# Altium schematic symbol library CANDAQ.SchLib: 22 symbols
Pins are listed as number, name and electrical type; pins without a type are passive.

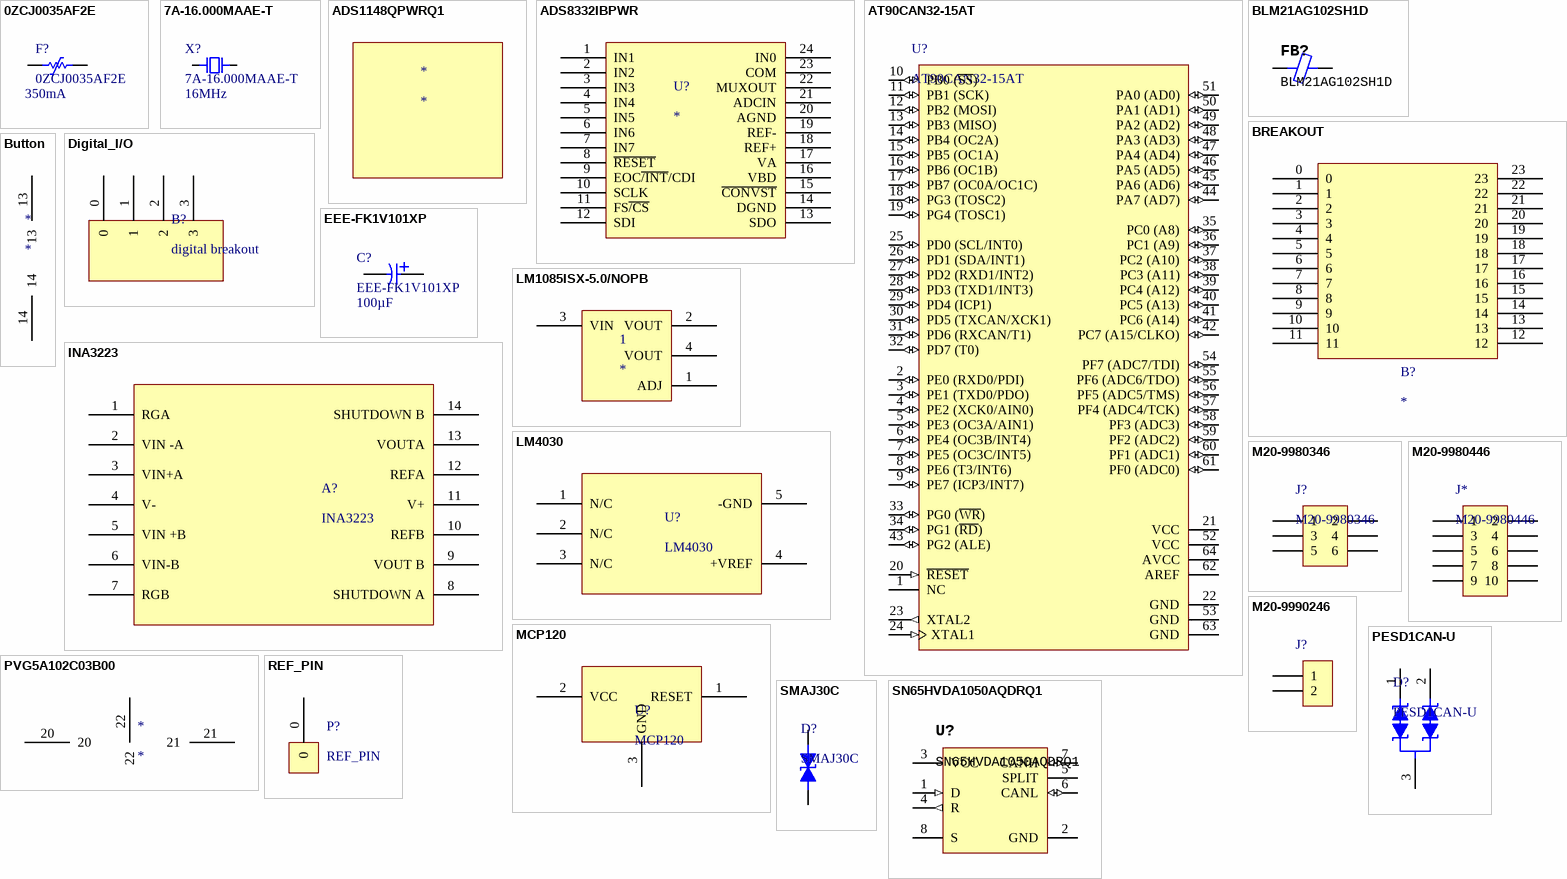
[diagram p0: symbols 0ZCJ0035AF2E to SN65HVDA1050AQDRQ1]

## 0ZCJ0035AF2E
designator F?  value 350mA
footprint 0ZCJ-1206-0.9
pins: 1, 2

## 7A-16.000MAAE-T
designator X?  value 16MHz
SMD Crystal Oscillator 12 pF; Load Capacitance: 12pF; Supplier 1: Digi-Key; Supplier Part Number 1: 887-1747-1-ND
footprint QFN200P500X320X135-2N (QFN, 2-Leads, Body 5.00x3.20mm, Pitch 2.00mm, IPC Medium Density)
pins: 1, 2

## ADS1148QPWRQ1
designator *

## ADS8332IBPWR
designator U?
footprint tssop
pins: 1 IN1, 2 IN2, 3 IN3, 4 IN4, 5 IN5, 6 IN6, 7 IN7, 8 ~{RESET}, 9 EOC~{/INT}/CDI, 10 SCLK, 11 FS~{/CS}, 12 SDI, 13 SDO, 14 DGND, 15 ~{CONVST}, 16 VBD, 17 VA, 18 REF+, 19 REF-, 20 AGND, 21 ADCIN, 22 MUXOUT, 23 COM, 24 IN0

## AT90CAN32-15AT
designator U?
Supplier 1: Digi-Key; Supplier Part Number 1: AT90CAN32-15ATCT-ND
footprint TQFP80P1600X1600X120-64N (TQFP, 64-Leads, Body 14.00x14.00mm, Pitch 0.80mm, IPC Medium Density)
pins: 1 NC, 2 PE0 (RXD0/PDI) (io), 3 PE1 (TXD0/PDO) (io), 4 PE2 (XCK0/AIN0) (io), 5 PE3 (OC3A/AIN1) (io), 6 PE4 (OC3B/INT4) (io), 7 PE5 (OC3C/INT5) (io), 8 PE6 (T3/INT6) (io), 9 PE7 (ICP3/INT7) (io), 10 PB0 (~{SS}) (io), 11 PB1 (SCK) (io), 12 PB2 (MOSI) (io), 13 PB3 (MISO) (io), 14 PB4 (OC2A) (io), 15 PB5 (OC1A) (io), 16 PB6 (OC1B) (io), 17 PB7 (OC0A/OC1C) (io), 18 PG3 (TOSC2) (io), 19 PG4 (TOSC1) (io), 20 ~{RESET} (in), 21 VCC (power), 22 GND (power), 23 XTAL2 (out), 24 XTAL1 (in), 25 PD0 (SCL/INT0) (io), 26 PD1 (SDA/INT1) (io), 27 PD2 (RXD1/INT2) (io), 28 PD3 (TXD1/INT3) (io), 29 PD4 (ICP1) (io), 30 PD5 (TXCAN/XCK1) (io), 31 PD6 (RXCAN/T1) (io), 32 PD7 (T0) (io), 33 PG0 (~{WR}) (io), 34 PG1 (~{RD}) (io), 35 PC0 (A8) (io), 36 PC1 (A9) (io), 37 PC2 (A10) (io), 38 PC3 (A11) (io), 39 PC4 (A12) (io), 40 PC5 (A13) (io), 41 PC6 (A14) (io), 42 PC7 (A15/CLKO) (io), 43 PG2 (ALE) (io), 44 PA7 (AD7) (io), 45 PA6 (AD6) (io), 46 PA5 (AD5) (io), 47 PA4 (AD4) (io), 48 PA3 (AD3) (io), 49 PA2 (AD2) (io), 50 PA1 (AD1) (io), 51 PA0 (AD0) (io), 52 VCC (power), 53 GND (power), 54 PF7 (ADC7/TDI) (io), 55 PF6 (ADC6/TDO) (io), 56 PF5 (ADC5/TMS) (io), 57 PF4 (ADC4/TCK) (io), 58 PF3 (ADC3) (io), 59 PF2 (ADC2) (io), 60 PF1 (ADC1) (io), 61 PF0 (ADC0) (io), 62 AREF (power), 63 GND (power), 64 AVCC (power)

## BLM21AG102SH1D
designator FB?
Supplier 1: Digi-Key; Supplier Part Number 1: 490-10664-1-ND
footprint INDC2012X11N (Chip Inductor, 2-Leads, Body 2.00x1.25mm, IPC Medium Density)
pins: 1, 2

## BREAKOUT
designator B?
pins: 0, 1, 2, 3, 4, 5, 6, 7, 8, 9, 10, 11, 12, 13, 14, 15, 16, 17, 18, 19, 20, 21, 22, 23

## Button
designator *
pins: 13, 14

## Digital_I/O
designator B?, comment digital breakout
footprint Digital_I/O
pins: 0, 1, 2, 3

## EEE-FK1V101XP
designator C?  value 100µF
Supplier 1: Digi-Key; Supplier Part Number 1: PCE3836CT-ND
footprint CAPAE7066X80M (Aluminum Electrolytic Capacitor, Body 6.60x6.60x8.00mm, IPC Low Density)
pins: 1, 2

## INA3223
designator A?
footprint TSSOP-14
pins: 1 RGA, 2 VIN -A, 3 VIN+A, 4 V-, 5 VIN +B, 6 VIN-B, 7 RGB, 8 SHUTDOWN A, 9 VOUT B, 10 REFB, 11 V+, 12 REFA, 13 VOUTA, 14 SHUTDOWN B

## LM1085ISX-5.0/NOPB
designator 1
footprint DDPAK/TO-263
pins: 1 ADJ, 2 VOUT, 3 VIN, 4 VOUT

## LM4030
designator U?
footprint so-23
pins: 1 N/C, 2 N/C, 3 N/C, 4 +VREF, 5 -GND

## M20-9980346
designator J?
2.54mm Header 2x3-Pin; Supplier 1: Digi-Key; Supplier Part Number 1: 952-2121-ND
footprint M20-9980346
pins: 1, 2, 3, 4, 5, 6

## M20-9980446
designator J*
2.54mm Header 2x4-Pin
footprint M20-9980446
pins: 1, 2, 3, 4, 5, 6, 7, 8, 9, 10

## M20-9990246
designator J?  (value not drawn)
2.54mm Header 1x2-Pin; Supplier 1: Digi-Key; Supplier Part Number 1: 952-2262-ND
footprint M20-9990246
pins: 1, 2

## MCP120
designator U?
footprint MCP120
pins: 1 RESET, 2 VCC, 3 GND

## PESD1CAN-U
designator D?
footprint SOT65P210X110-3N (SOT23, 3-Leads, Body 2.00x2.10mm, Pitch 0.65mm, IPC Medium Density)
pins: 1, 2, 3

## PVG5A102C03B00
designator *
pins: 20, 21, 22

## REF_PIN
designator P?
footprint REF_PIN
pins: 0

## SMAJ30C
designator D?
footprint SON127P500X135-2N (SON, 2-Leads, Body 3.20x5.00mm, Pitch 1.27mm, IPC Medium Density)
pins: 1, 2

## SN65HVDA1050AQDRQ1
designator U?
CAN transceiver; Supplier 1: Digi-Key; Supplier Part Number 1: 296-25836-1-ND
footprint SOIC127P600X175-8M (SOIC, 8-Leads, Body 4.90x3.90mm, Pitch 1.27mm, IPC Low Density)
pins: 1 D (in) "Driver input", 2 GND (power) "Ground", 3 VCC (power) "Supply voltage", 4 R (out) "Receiver output", 5 SPLIT "No connection", 6 CANL (io) "Low bus output", 7 CANH (io) "High bus outpu", 8 S "No connection"